# EAGLE library part ACHS-7121-000E (library HyTechDevices)
10A SMD Current Sensor Datasheet <https://www.mouser.com/datasheet/2/678/ACHS_712x_DS101_2018_02_28-1386725.pdf>
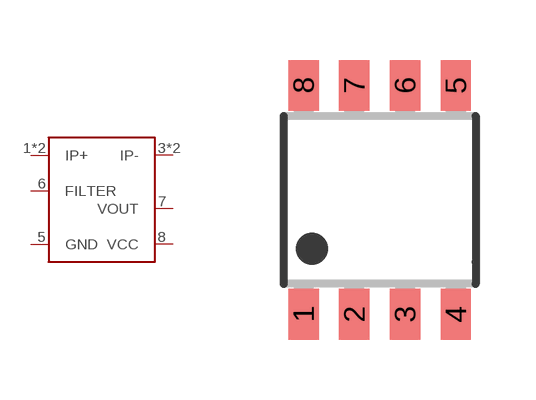
[diagram p29: symbol with the pads of SOP8; footprint SOP8]

Designator prefix -

## ACHS-7121-000E (CURRENT: 10A; DKPN: 516-4080-ND; LINEARITY: 0.18%; MOPN: 630-ACHS-7121-000E)  [SOP8]
1  IP+
2  IP+
3  IP-
4  IP-
5  GND  pwr
6  FILTER  out
7  VOUT  out
8  VCC  pwr

## Footprint SOP8 (pad centres in mm)
Small Outline Package 8 8P2S-A Plastic 8pin 225mil SOP Source: Mitsubishi M5218AL/P/FP
smd 0.76 x 1.27: 1 -1.905,-2.86; 2 -0.635,-2.86; 3 0.635,-2.86; 4 1.905,-2.86; 5 1.905,2.86; 6 0.635,2.86; 7 -0.635,2.86; 8 -1.905,2.86